# Altium schematic symbol library schematic_library.SchLib: 5 symbols
Pins are listed as number, name and electrical type; pins without a type are passive.

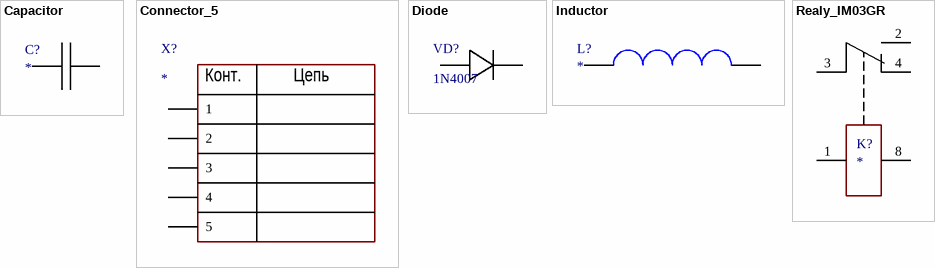
[diagram p0: symbols Capacitor to Realy_IM03GR]

## Capacitor
designator C?
Kind: Capacitor; Href: *; Manufacturer: *; Value: *; PartNumber: *
footprint capacitor_0805
footprint capacitor_0603
pins: 0, 1

## Connector_5
designator X?
Kind: Connector; Manufacturer: *; Href: *; PartNumber: *
footprint connector_5_pls
pins: 1, 2, 3 (power), 4 (power), 5 (power)
text: Конт.; Цепь

## Diode
designator VD?, comment 1N4007
Kind: Diode; Manufacturer: *; PartNumber: 1N4007; Href: *
footprint DIODE_DO41
pins: 0, 1

## Inductor
designator L?
Kind: Inductor; Value: *; PartNumber: *; Manufacturer: *; Href: *
footprint inductor_0810
pins: 0, 1

## Realy_IM03GR
designator K?
Kind: Relay; Href: *; PartNumber: *; Manufacturer: *
footprint RELAY_IM03GR
pins: 1, 2, 3 3(6), 4, 8